# EAGLE library part NMJ6HFD2 (library con_neutrik_ag__Jack6,35)
1/4" stereo jack, switched, with a full threaded nose and straight PCB pins Mounting nut included
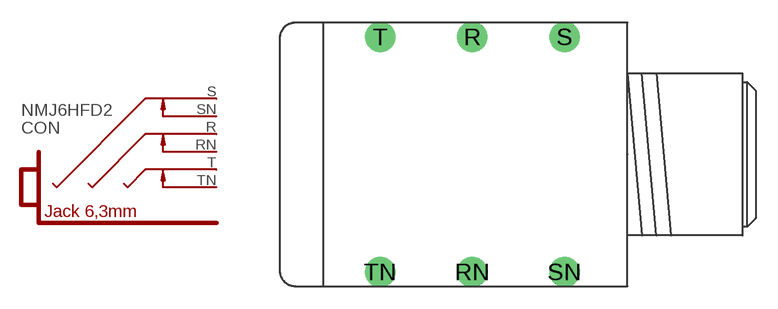
[diagram p9: symbol with the pads of NMJ6HFD2; footprint NMJ6HFD2]

Designator prefix CON

## NMJ6HFD2  [NMJ6HFD2]
R  R  pas
RN  RN  pas
S  S  pas
SN  SN  pas
T  T  pas
TN  TN  pas

## NMJ6HFD2-AU  [NMJ6HFD2]
Pads as for NMJ6HFD2

## Footprint NMJ6HFD2 (pad centres in mm)
drill 1.4 round: R -10.7,8.115; RN -10.7,-8.115; S -4.35,8.115; SN -4.35,-8.115; T -17.05,8.115; TN -17.05,-8.115